# Altium schematic symbol library TI Power Management DC-DC Controller (External Switch).SchLib: 349 symbols (part 25 of 26)
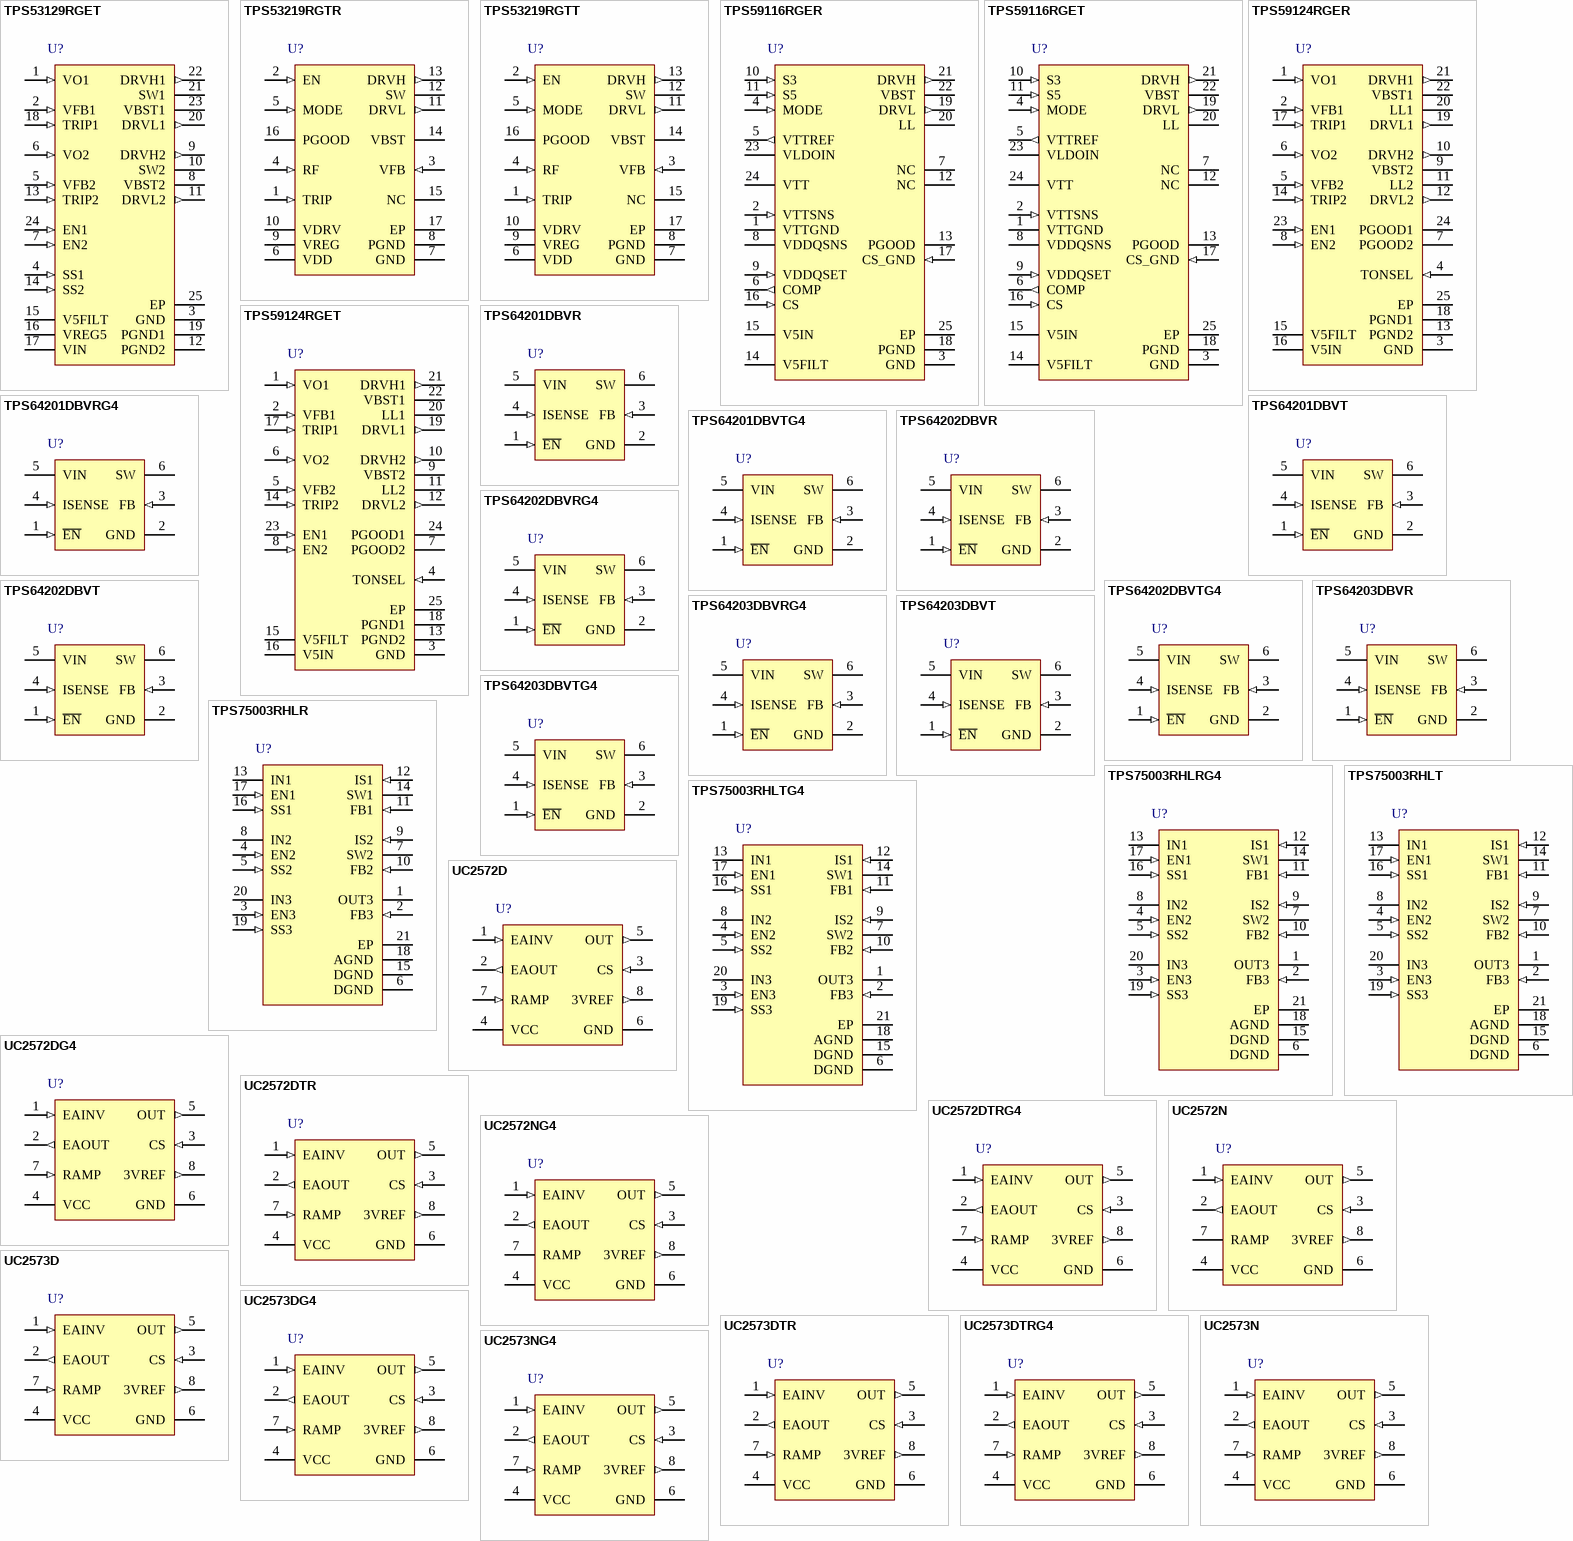
[diagram p38: symbols TPS53129RGET to UC2573NG4]

## TPS64202DBVTG4
designator U?
Adjustable, up to 3 A, 95 % Efficient Step-Down Controller, 100 % Duty Cycle, 1.8 to 6.5 V, -40 to 85 degC, 6-pin SOT-23 (DBV), Green (RoHS & no Sb/Br); Manufacturer: Texas Instruments; PartNumber: TPS64202DBVTG4; Duty Cycle(Max)(%): 100; Iout(Max)(A): 3; Regulated Outputs(#): 1; Topology: Buck; Vin(Max)(V): 6.5; Vin(Min)(V): 1.8; Vout(Min)(V): 1.2; DatasheetVersion: SLVS485; PackageVersion: revK, Mar-2006; PackageReference: DBV6; PackageDescription: 6-Pin Plastic Small-Outline Package, 2.9 x 1.6 mm Body, 0.95 mm Pitch, 2.8 mm Lead Span; Supplier 1: Digi-Key; Supplier Part Number 1: TPS64202DBVTG4-ND; Eco-Plan: Green (RoHS & no Sb/Br); SubFamily: Step-Down Controller; Vout(Max)(V): 6.5; Mounting Technology: Surface Mount; Code_JEDEC: MO-178-AB*; ComponentLink1Description: Datasheet; ComponentLink1URL: http://www.ti.com/general/docs/lit/getliterature.tsp?genericPartNumber=TPS64202&fileType=pdf; ComponentLink2Description: Package Specification; ComponentLink2URL: http://www.ti.com/litv/pdf/mpds026h
footprint DBV6_N (SOT23, 6-Leads, Body 2.9x1.6mm, Pitch 0.95mm, Lead Span 2.8mm, IPC Medium Density)
footprint DBV6_L (SOT23, 6-Leads, Body 2.9x1.6mm, Pitch 0.95mm, Lead Span 2.8mm, IPC High Density)
footprint DBV6_M (SOT23, 6-Leads, Body 2.9x1.6mm, Pitch 0.95mm, Lead Span 2.8mm, IPC Low Density)
pins: 1 ~{EN} (in) "Enable. A logic low enables the converter, logic high forces the device into shutdown mode reducing the supply current to less than 1 uA.", 2 GND (power) "Ground", 3 FB (in) "Feedback pin. Connect an external voltage divider to this pin to set the output voltage", 4 ISENSE (in) "Current sense input. Connect the current sense resistor between VIN and ISENSE. (optional)", 5 VIN (power) "Supply voltage input", 6 SW (power) "This pin connects to the gate of an external P-channel MOSFET"

## TPS64203DBVR
designator U?
Adjustable, up to 3 A, 95 % Efficient Step-Down Controller, 100 % Duty Cycle, 1.8 to 6.5 V, -40 to 85 degC, 6-pin SOT-23 (DBV), Green (RoHS & no Sb/Br); Manufacturer: Texas Instruments; PartNumber: TPS64203DBVR; Duty Cycle(Max)(%): 100; Iout(Max)(A): 3; Regulated Outputs(#): 1; Topology: Buck; Vin(Max)(V): 6.5; Vin(Min)(V): 1.8; Vout(Min)(V): 1.2; DatasheetVersion: SLVS485; PackageVersion: revK, Mar-2006; PackageReference: DBV6; PackageDescription: 6-Pin Plastic Small-Outline Package, 2.9 x 1.6 mm Body, 0.95 mm Pitch, 2.8 mm Lead Span; Supplier 1: Digi-Key; Supplier Part Number 1: 296-27036-2-ND; Eco-Plan: Green (RoHS & no Sb/Br); SubFamily: Step-Down Controller; Vout(Max)(V): 6.5; Mounting Technology: Surface Mount; Code_JEDEC: MO-178-AB*; ComponentLink1Description: Datasheet; ComponentLink1URL: http://www.ti.com/general/docs/lit/getliterature.tsp?genericPartNumber=TPS64203&fileType=pdf; ComponentLink2Description: Package Specification; ComponentLink2URL: http://www.ti.com/litv/pdf/mpds026h
footprint DBV6_N (SOT23, 6-Leads, Body 2.9x1.6mm, Pitch 0.95mm, Lead Span 2.8mm, IPC Medium Density)
footprint DBV6_L (SOT23, 6-Leads, Body 2.9x1.6mm, Pitch 0.95mm, Lead Span 2.8mm, IPC High Density)
footprint DBV6_M (SOT23, 6-Leads, Body 2.9x1.6mm, Pitch 0.95mm, Lead Span 2.8mm, IPC Low Density)
pins: 1 ~{EN} (in) "Enable. A logic low enables the converter, logic high forces the device into shutdown mode reducing the supply current to less than 1 uA.", 2 GND (power) "Ground", 3 FB (in) "Feedback pin. Connect an external voltage divider to this pin to set the output voltage.", 4 ISENSE (in) "Current sense input. Connect the current sense resistor between VIN and ISENSE. (optional)", 5 VIN (power) "Supply voltage input", 6 SW (power) "This pin connects to the gate of an external P-channel MOSFET."

## TPS64203DBVRG4
designator U?
Adjustable, up to 3 A, 95 % Efficient Step-Down Controller, 100 % Duty Cycle, 1.8 to 6.5 V, -40 to 85 degC, 6-pin SOT-23 (DBV), Green (RoHS & no Sb/Br); Manufacturer: Texas Instruments; PartNumber: TPS64203DBVRG4; Duty Cycle(Max)(%): 100; Iout(Max)(A): 3; Regulated Outputs(#): 1; Topology: Buck; Vin(Max)(V): 6.5; Vin(Min)(V): 1.8; Vout(Min)(V): 1.2; DatasheetVersion: SLVS485; PackageVersion: revK, Mar-2006; PackageReference: DBV6; PackageDescription: 6-Pin Plastic Small-Outline Package, 2.9 x 1.6 mm Body, 0.95 mm Pitch, 2.8 mm Lead Span; Supplier 1: Digi-Key; Supplier Part Number 1: TPS64203DBVRG4-ND; Eco-Plan: Green (RoHS & no Sb/Br); SubFamily: Step-Down Controller; Vout(Max)(V): 6.5; Mounting Technology: Surface Mount; Code_JEDEC: MO-178-AB*; ComponentLink1Description: Datasheet; ComponentLink1URL: http://www.ti.com/general/docs/lit/getliterature.tsp?genericPartNumber=TPS64203&fileType=pdf; ComponentLink2Description: Package Specification; ComponentLink2URL: http://www.ti.com/litv/pdf/mpds026h
footprint DBV6_N (SOT23, 6-Leads, Body 2.9x1.6mm, Pitch 0.95mm, Lead Span 2.8mm, IPC Medium Density)
footprint DBV6_L (SOT23, 6-Leads, Body 2.9x1.6mm, Pitch 0.95mm, Lead Span 2.8mm, IPC High Density)
footprint DBV6_M (SOT23, 6-Leads, Body 2.9x1.6mm, Pitch 0.95mm, Lead Span 2.8mm, IPC Low Density)
pins: 1 ~{EN} (in) "Enable. A logic low enables the converter, logic high forces the device into shutdown mode reducing the supply current to less than 1 uA.", 2 GND (power) "Ground", 3 FB (in) "Feedback pin. Connect an external voltage divider to this pin to set the output voltage.", 4 ISENSE (in) "Current sense input. Connect the current sense resistor between VIN and ISENSE. (optional)", 5 VIN (power) "Supply voltage input", 6 SW (power) "This pin connects to the gate of an external P-channel MOSFET."

## TPS64203DBVT
designator U?
Adjustable, up to 3 A, 95 % Efficient Step-Down Controller, 100 % Duty Cycle, 1.8 to 6.5 V, -40 to 85 degC, 6-pin SOT-23 (DBV), Green (RoHS & no Sb/Br); Manufacturer: Texas Instruments; PartNumber: TPS64203DBVT; Duty Cycle(Max)(%): 100; Iout(Max)(A): 3; Regulated Outputs(#): 1; Topology: Buck; Vin(Max)(V): 6.5; Vin(Min)(V): 1.8; Vout(Min)(V): 1.2; DatasheetVersion: SLVS485; PackageVersion: revK, Mar-2006; PackageReference: DBV6; PackageDescription: 6-Pin Plastic Small-Outline Package, 2.9 x 1.6 mm Body, 0.95 mm Pitch, 2.8 mm Lead Span; Supplier 1: Digi-Key; Supplier Part Number 1: 296-15707-2-ND; Eco-Plan: Green (RoHS & no Sb/Br); SubFamily: Step-Down Controller; Vout(Max)(V): 6.5; Mounting Technology: Surface Mount; Code_JEDEC: MO-178-AB*; ComponentLink1Description: Datasheet; ComponentLink1URL: http://www.ti.com/general/docs/lit/getliterature.tsp?genericPartNumber=TPS64203&fileType=pdf; ComponentLink2Description: Package Specification; ComponentLink2URL: http://www.ti.com/litv/pdf/mpds026h
footprint DBV6_N (SOT23, 6-Leads, Body 2.9x1.6mm, Pitch 0.95mm, Lead Span 2.8mm, IPC Medium Density)
footprint DBV6_L (SOT23, 6-Leads, Body 2.9x1.6mm, Pitch 0.95mm, Lead Span 2.8mm, IPC High Density)
footprint DBV6_M (SOT23, 6-Leads, Body 2.9x1.6mm, Pitch 0.95mm, Lead Span 2.8mm, IPC Low Density)
pins: 1 ~{EN} (in) "Enable. A logic low enables the converter, logic high forces the device into shutdown mode reducing the supply current to less than 1 uA.", 2 GND (power) "Ground", 3 FB (in) "Feedback pin. Connect an external voltage divider to this pin to set the output voltage.", 4 ISENSE (in) "Current sense input. Connect the current sense resistor between VIN and ISENSE. (optional)", 5 VIN (power) "Supply voltage input", 6 SW (power) "This pin connects to the gate of an external P-channel MOSFET."

## TPS64203DBVTG4
designator U?
Adjustable, up to 3 A, 95 % Efficient Step-Down Controller, 100 % Duty Cycle, 1.8 to 6.5 V, -40 to 85 degC, 6-pin SOT-23 (DBV), Green (RoHS & no Sb/Br); Manufacturer: Texas Instruments; PartNumber: TPS64203DBVTG4; Duty Cycle(Max)(%): 100; Iout(Max)(A): 3; Regulated Outputs(#): 1; Topology: Buck; Vin(Max)(V): 6.5; Vin(Min)(V): 1.8; Vout(Min)(V): 1.2; DatasheetVersion: SLVS485; PackageVersion: revK, Mar-2006; PackageReference: DBV6; PackageDescription: 6-Pin Plastic Small-Outline Package, 2.9 x 1.6 mm Body, 0.95 mm Pitch, 2.8 mm Lead Span; Supplier 1: Digi-Key; Supplier Part Number 1: TPS64203DBVTG4-ND; Eco-Plan: Green (RoHS & no Sb/Br); SubFamily: Step-Down Controller; Vout(Max)(V): 6.5; Mounting Technology: Surface Mount; Code_JEDEC: MO-178-AB*; ComponentLink1Description: Datasheet; ComponentLink1URL: http://www.ti.com/general/docs/lit/getliterature.tsp?genericPartNumber=TPS64203&fileType=pdf; ComponentLink2Description: Package Specification; ComponentLink2URL: http://www.ti.com/litv/pdf/mpds026h
footprint DBV6_N (SOT23, 6-Leads, Body 2.9x1.6mm, Pitch 0.95mm, Lead Span 2.8mm, IPC Medium Density)
footprint DBV6_L (SOT23, 6-Leads, Body 2.9x1.6mm, Pitch 0.95mm, Lead Span 2.8mm, IPC High Density)
footprint DBV6_M (SOT23, 6-Leads, Body 2.9x1.6mm, Pitch 0.95mm, Lead Span 2.8mm, IPC Low Density)
pins: 1 ~{EN} (in) "Enable. A logic low enables the converter, logic high forces the device into shutdown mode reducing the supply current to less than 1 uA.", 2 GND (power) "Ground", 3 FB (in) "Feedback pin. Connect an external voltage divider to this pin to set the output voltage.", 4 ISENSE (in) "Current sense input. Connect the current sense resistor between VIN and ISENSE. (optional)", 5 VIN (power) "Supply voltage input", 6 SW (power) "This pin connects to the gate of an external P-channel MOSFET."

## TPS75003RHLR
designator U?
Integrated Triple Supply Power Management IC for Xilinx (R) Spartan (TM)-3 FPGAs, 2.2 to 6.5 V, -40 to 85 degC, 20-pin QFN (RHL), Green (RoHS & no Sb/Br); Manufacturer: Texas Instruments; PartNumber: TPS75003RHLR; Regulated Outputs(#): 3; SubFamily: DC/DC Controller (External Switch); Topology: Multi-Channel; Vin(Max)(V): 6.5; Vin(Min)(V): 2.2; DatasheetVersion: SBVS052I; PackageVersion: revJ, Dec-2011; PackageReference: RHL20-3050X2050TP; PackageDescription: 20-Leads Plastic Quad Flatpack No-Lead, 4.5 x 3.5 x 0.9 mm Body, 0.5 mm Pitch, Exposed Pad; Supplier 1: Digi-Key; Supplier Part Number 1: 296-17835-2-ND; Eco-Plan: Green (RoHS & no Sb/Br); Mounting Technology: Surface Mount; ComponentLink1Description: Datasheet; ComponentLink1URL: http://www.ti.com/general/docs/lit/getliterature.tsp?genericPartNumber=TPS75003&fileType=pdf; ComponentLink2Description: Package Specification; ComponentLink2URL: http://www.ti.com/litv/pdf/mpqf155i
footprint RHL20-3050X2050TP (QFN, 20-Leads, Body 4.5x3.5mm, Pitch 0.5mm, Thermal Pad 3.05x2.05mm, TI Recommended)
pins: 1 OUT3 (power) "Regulated LDO output. A small ceramic capacitor (>= 2.2uF) is needed from this pin to ground to ensure stability.", 2 FB3 (in) "Same as FB1 but for LDO.", 3 EN3 (in) "Same as EN1 but for LDO.", 4 EN2 (in) "Same as EN1 but for BUCK2 controller.", 5 SS2 (in) "Same as SS1 but for BUCK2 regulator.", 6 DGND (power) "Ground connection for BUCK1 and BUCK2 converters. Pins 6 and 15 should be connected to the back side exposed pad by a short metal trace as shown in the PCB Layout section of this data sheet.", 7 SW2 (power) "Same as SW1 but for BUCK2 controller.", 8 IN2 (power) "Input supply to BUCK2.", 9 IS2 (in) "Same as IS1 but compared to IN2 and used for BUCK2 controller.", 10 FB2 (in) "Same as FB1 but for BUCK2 controller.", 11 FB1 (in) "Feedback pin. Used to set the output voltage of BUCK1 regulator.", 12 IS1 (in) "Current sense input for BUCK1 regulator. The voltage difference between this pin and IN1 is compared to an internal reference to set current limit. For a robust output start-up ramp, careful layout and bypassing are required.(See Datasheet)", 13 IN1 (power) "Input supply to BUCK1.", 14 SW1 (power) "Gate drive pin for external BUCK1 P-channel MOSFET.", 15 DGND (power) "Ground connection for BUCK1 and BUCK2 converters. Pins 6 and 15 should be connected to the back side exposed pad by a short metal trace as shown in the PCB Layout section of this data sheet.", 16 SS1 (in) "Connecting a capacitor between this pin and ground increases start-up time of the BUCK1 regulator by slowing the ramp-up of current limit. This high-impedance pin is noise-sensitive; careful layout is important. See the (See Datasheet)", 17 EN1 (in) "Driving the enable pin (ENx) high turns on BUCK1 regulator. Driving this pin low puts it into shutdown mode, reducing operating current. The enable pin does not trigger on fast negative going transients.", 18 AGND (power) "Ground connection for LDO.", 19 SS3 (in) "Connecting a capacitor from this pin to ground slows the start-up time of the LDO reference, therby slowing output voltage ramp-up. See the Applications section for details.", 20 IN3 (power) "Input supply to LDO.", 21 EP (power) "Ground connection for BUCK1 and BUCK2 converters. Pins 6 and 15 should be connected to the back side exposed pad by a short metal trace as shown in the PCB Layout section of this data sheet."

## TPS75003RHLRG4
designator U?
Integrated Triple Supply Power Management IC for Xilinx (R) Spartan (TM)-3 FPGAs, 2.2 to 6.5 V, -40 to 85 degC, 20-pin QFN (RHL), Green (RoHS & no Sb/Br); Manufacturer: Texas Instruments; PartNumber: TPS75003RHLRG4; Regulated Outputs(#): 3; SubFamily: DC/DC Controller (External Switch); Topology: Multi-Channel; Vin(Max)(V): 6.5; Vin(Min)(V): 2.2; DatasheetVersion: SBVS052I; PackageVersion: revJ, Dec-2011; PackageReference: RHL20-3050X2050TP; PackageDescription: 20-Leads Plastic Quad Flatpack No-Lead, 4.5 x 3.5 x 0.9 mm Body, 0.5 mm Pitch, Exposed Pad; Supplier 1: Digi-Key; Supplier Part Number 1: TPS75003RHLRG4-ND; Eco-Plan: Green (RoHS & no Sb/Br); Mounting Technology: Surface Mount; ComponentLink1Description: Datasheet; ComponentLink1URL: http://www.ti.com/general/docs/lit/getliterature.tsp?genericPartNumber=TPS75003&fileType=pdf; ComponentLink2Description: Package Specification; ComponentLink2URL: http://www.ti.com/litv/pdf/mpqf155i
footprint RHL20-3050X2050TP (QFN, 20-Leads, Body 4.5x3.5mm, Pitch 0.5mm, Thermal Pad 3.05x2.05mm, TI Recommended)
pins: 1 OUT3 (power) "Regulated LDO output. A small ceramic capacitor (>= 2.2uF) is needed from this pin to ground to ensure stability.", 2 FB3 (in) "Same as FB1 but for LDO.", 3 EN3 (in) "Same as EN1 but for LDO.", 4 EN2 (in) "Same as EN1 but for BUCK2 controller.", 5 SS2 (in) "Same as SS1 but for BUCK2 regulator.", 6 DGND (power) "Ground connection for BUCK1 and BUCK2 converters. Pins 6 and 15 should be connected to the back side exposed pad by a short metal trace as shown in the PCB Layout section of this data sheet.", 7 SW2 (power) "Same as SW1 but for BUCK2 controller.", 8 IN2 (power) "Input supply to BUCK2.", 9 IS2 (in) "Same as IS1 but compared to IN2 and used for BUCK2 controller.", 10 FB2 (in) "Same as FB1 but for BUCK2 controller.", 11 FB1 (in) "Feedback pin. Used to set the output voltage of BUCK1 regulator.", 12 IS1 (in) "Current sense input for BUCK1 regulator. The voltage difference between this pin and IN1 is compared to an internal reference to set current limit. For a robust output start-up ramp, careful layout and bypassing are required.(See Datasheet)", 13 IN1 (power) "Input supply to BUCK1.", 14 SW1 (power) "Gate drive pin for external BUCK1 P-channel MOSFET.", 15 DGND (power) "Ground connection for BUCK1 and BUCK2 converters. Pins 6 and 15 should be connected to the back side exposed pad by a short metal trace as shown in the PCB Layout section of this data sheet.", 16 SS1 (in) "Connecting a capacitor between this pin and ground increases start-up time of the BUCK1 regulator by slowing the ramp-up of current limit. This high-impedance pin is noise-sensitive; careful layout is important. See the (See Datasheet)", 17 EN1 (in) "Driving the enable pin (ENx) high turns on BUCK1 regulator. Driving this pin low puts it into shutdown mode, reducing operating current. The enable pin does not trigger on fast negative going transients.", 18 AGND (power) "Ground connection for LDO.", 19 SS3 (in) "Connecting a capacitor from this pin to ground slows the start-up time of the LDO reference, therby slowing output voltage ramp-up. See the Applications section for details.", 20 IN3 (power) "Input supply to LDO.", 21 EP (power) "Ground connection for BUCK1 and BUCK2 converters. Pins 6 and 15 should be connected to the back side exposed pad by a short metal trace as shown in the PCB Layout section of this data sheet."

## TPS75003RHLT
designator U?
Integrated Triple Supply Power Management IC for Xilinx (R) Spartan (TM)-3 FPGAs, 2.2 to 6.5 V, -40 to 85 degC, 20-pin QFN (RHL), Green (RoHS & no Sb/Br); Manufacturer: Texas Instruments; PartNumber: TPS75003RHLT; Regulated Outputs(#): 3; SubFamily: DC/DC Controller (External Switch); Topology: Multi-Channel; Vin(Max)(V): 6.5; Vin(Min)(V): 2.2; DatasheetVersion: SBVS052I; PackageVersion: revJ, Dec-2011; PackageReference: RHL20-3050X2050TP; PackageDescription: 20-Leads Plastic Quad Flatpack No-Lead, 4.5 x 3.5 x 0.9 mm Body, 0.5 mm Pitch, Exposed Pad; Supplier 1: Digi-Key; Supplier Part Number 1: 296-19438-2-ND; Eco-Plan: Green (RoHS & no Sb/Br); Mounting Technology: Surface Mount; ComponentLink1Description: Datasheet; ComponentLink1URL: http://www.ti.com/general/docs/lit/getliterature.tsp?genericPartNumber=TPS75003&fileType=pdf; ComponentLink2Description: Package Specification; ComponentLink2URL: http://www.ti.com/litv/pdf/mpqf155i
footprint RHL20-3050X2050TP (QFN, 20-Leads, Body 4.5x3.5mm, Pitch 0.5mm, Thermal Pad 3.05x2.05mm, TI Recommended)
pins: 1 OUT3 (power) "Regulated LDO output. A small ceramic capacitor (>= 2.2uF) is needed from this pin to ground to ensure stability.", 2 FB3 (in) "Same as FB1 but for LDO.", 3 EN3 (in) "Same as EN1 but for LDO.", 4 EN2 (in) "Same as EN1 but for BUCK2 controller.", 5 SS2 (in) "Same as SS1 but for BUCK2 regulator.", 6 DGND (power) "Ground connection for BUCK1 and BUCK2 converters. Pins 6 and 15 should be connected to the back side exposed pad by a short metal trace as shown in the PCB Layout section of this data sheet.", 7 SW2 (power) "Same as SW1 but for BUCK2 controller.", 8 IN2 (power) "Input supply to BUCK2.", 9 IS2 (in) "Same as IS1 but compared to IN2 and used for BUCK2 controller.", 10 FB2 (in) "Same as FB1 but for BUCK2 controller.", 11 FB1 (in) "Feedback pin. Used to set the output voltage of BUCK1 regulator.", 12 IS1 (in) "Current sense input for BUCK1 regulator. The voltage difference between this pin and IN1 is compared to an internal reference to set current limit. For a robust output start-up ramp, careful layout and bypassing are required.(See Datasheet)", 13 IN1 (power) "Input supply to BUCK1.", 14 SW1 (power) "Gate drive pin for external BUCK1 P-channel MOSFET.", 15 DGND (power) "Ground connection for BUCK1 and BUCK2 converters. Pins 6 and 15 should be connected to the back side exposed pad by a short metal trace as shown in the PCB Layout section of this data sheet.", 16 SS1 (in) "Connecting a capacitor between this pin and ground increases start-up time of the BUCK1 regulator by slowing the ramp-up of current limit. This high-impedance pin is noise-sensitive; careful layout is important. See the (See Datasheet)", 17 EN1 (in) "Driving the enable pin (ENx) high turns on BUCK1 regulator. Driving this pin low puts it into shutdown mode, reducing operating current. The enable pin does not trigger on fast negative going transients.", 18 AGND (power) "Ground connection for LDO.", 19 SS3 (in) "Connecting a capacitor from this pin to ground slows the start-up time of the LDO reference, therby slowing output voltage ramp-up. See the Applications section for details.", 20 IN3 (power) "Input supply to LDO.", 21 EP (power) "Ground connection for BUCK1 and BUCK2 converters. Pins 6 and 15 should be connected to the back side exposed pad by a short metal trace as shown in the PCB Layout section of this data sheet."

## TPS75003RHLTG4
designator U?
Integrated Triple Supply Power Management IC for Xilinx (R) Spartan (TM)-3 FPGAs, 2.2 to 6.5 V, -40 to 85 degC, 20-pin QFN (RHL), Green (RoHS & no Sb/Br); Manufacturer: Texas Instruments; PartNumber: TPS75003RHLTG4; Regulated Outputs(#): 3; SubFamily: DC/DC Controller (External Switch); Topology: Multi-Channel; Vin(Max)(V): 6.5; Vin(Min)(V): 2.2; DatasheetVersion: SBVS052I; PackageVersion: revJ, Dec-2011; PackageReference: RHL20-3050X2050TP; PackageDescription: 20-Leads Plastic Quad Flatpack No-Lead, 4.5 x 3.5 x 0.9 mm Body, 0.5 mm Pitch, Exposed Pad; Supplier 1: Digi-Key; Supplier Part Number 1: TPS75003RHLTG4-ND; Eco-Plan: Green (RoHS & no Sb/Br); Mounting Technology: Surface Mount; ComponentLink1Description: Datasheet; ComponentLink1URL: http://www.ti.com/general/docs/lit/getliterature.tsp?genericPartNumber=TPS75003&fileType=pdf; ComponentLink2Description: Package Specification; ComponentLink2URL: http://www.ti.com/litv/pdf/mpqf155i
footprint RHL20-3050X2050TP (QFN, 20-Leads, Body 4.5x3.5mm, Pitch 0.5mm, Thermal Pad 3.05x2.05mm, TI Recommended)
pins: 1 OUT3 (power) "Regulated LDO output. A small ceramic capacitor (>= 2.2uF) is needed from this pin to ground to ensure stability.", 2 FB3 (in) "Same as FB1 but for LDO.", 3 EN3 (in) "Same as EN1 but for LDO.", 4 EN2 (in) "Same as EN1 but for BUCK2 controller.", 5 SS2 (in) "Same as SS1 but for BUCK2 regulator.", 6 DGND (power) "Ground connection for BUCK1 and BUCK2 converters. Pins 6 and 15 should be connected to the back side exposed pad by a short metal trace as shown in the PCB Layout section of this data sheet.", 7 SW2 (power) "Same as SW1 but for BUCK2 controller.", 8 IN2 (power) "Input supply to BUCK2.", 9 IS2 (in) "Same as IS1 but compared to IN2 and used for BUCK2 controller.", 10 FB2 (in) "Same as FB1 but for BUCK2 controller.", 11 FB1 (in) "Feedback pin. Used to set the output voltage of BUCK1 regulator.", 12 IS1 (in) "Current sense input for BUCK1 regulator. The voltage difference between this pin and IN1 is compared to an internal reference to set current limit. For a robust output start-up ramp, careful layout and bypassing are required.(See Datasheet)", 13 IN1 (power) "Input supply to BUCK1.", 14 SW1 (power) "Gate drive pin for external BUCK1 P-channel MOSFET.", 15 DGND (power) "Ground connection for BUCK1 and BUCK2 converters. Pins 6 and 15 should be connected to the back side exposed pad by a short metal trace as shown in the PCB Layout section of this data sheet.", 16 SS1 (in) "Connecting a capacitor between this pin and ground increases start-up time of the BUCK1 regulator by slowing the ramp-up of current limit. This high-impedance pin is noise-sensitive; careful layout is important. See the (See Datasheet)", 17 EN1 (in) "Driving the enable pin (ENx) high turns on BUCK1 regulator. Driving this pin low puts it into shutdown mode, reducing operating current. The enable pin does not trigger on fast negative going transients.", 18 AGND (power) "Ground connection for LDO.", 19 SS3 (in) "Connecting a capacitor from this pin to ground slows the start-up time of the LDO reference, therby slowing output voltage ramp-up. See the Applications section for details.", 20 IN3 (power) "Input supply to LDO.", 21 EP (power) "Ground connection for BUCK1 and BUCK2 converters. Pins 6 and 15 should be connected to the back side exposed pad by a short metal trace as shown in the PCB Layout section of this data sheet."

## UC2572D
designator U?
Negative Output Flyback Pulse Width Modulator, 100 % Duty Cycle, 4.2 to 35 V, -40 to 85 degC, 8-pin SOIC (D), Green (RoHS & no Sb/Br); Manufacturer: Texas Instruments; PartNumber: UC2572D; Duty Cycle(Max)(%): 100; Iout(Max)(A): 0.5; Regulated Outputs(#): 1; SubFamily: Buck-Boost, Inverting Switching Controller; Switching Frequency(Max)(kHz): 300; Vin(Max)(V): 35; Vin(Min)(V): 4.2; Vout(Max)(V): -1; Vout(Min)(V): -70; DatasheetVersion: SLUS275A; PackageVersion: revM, Jun-2011; PackageReference: D8; PackageDescription: 8-Pin Plastic Small Outline Integrated Circuit, 4.9 x 3.9 mm, Pitch 1.27 mm Pitch; Supplier 1: Digi-Key; Supplier Part Number 1: 296-2480-5-ND; Eco-Plan: Green (RoHS & no Sb/Br); Topology: Flyback; Mounting Technology: Surface Mount; Code_JEDEC: MS-012AA; ComponentLink1Description: Datasheet; ComponentLink1URL: http://www.ti.com/general/docs/lit/getliterature.tsp?genericPartNumber=UC2572&fileType=pdf; ComponentLink2Description: Package Specification; ComponentLink2URL: http://www.ti.com/litv/pdf/msoi002j
footprint D8_N (SOIC, 8-Leads, Body 4.9x3.9mm, Pitch 1.27mm, IPC Medium Density)
footprint D8_L (SOIC, 8-Leads, Body 4.9x3.9mm, Pitch 1.27mm, IPC High Density)
footprint D8_M (SOIC, 8-Leads, Body 4.9x3.9mm, Pitch 1.27mm, IPC Low Density)
pins: 1 EAINV (in) "Inverting input to error amplifier. Summing junction for 3VREF and VOUT sense. The non-inverting input of the error amplifier is internally connected to GND. This pin will source a maximum of 1mA.", 2 EAOUT (out) "Output of error amplifier. Use EAOUT and EAINV for loop compensation components.", 3 CS (in) "Current limit sense pin. Connect to a ground referenced current sense resistor in series with the flyback inductor. OUT will be held high (PMOS switch off) if CS exceeds 0.2V.", 4 VCC (power) "Input voltage supply to chip. Range is 4.75 to 30V. Bypass with a 1uF capacitor", 5 OUT (out) "Gate drive for external PMOS switch connected between VCC and the flyback inductor. OUT drives the gate of the PMOS switch between VCC and GND", 6 GND (power) "Circuit Ground.", 7 RAMP (in) "Oscillator and ramp for pulse width modulator.Frequency is set by a capacitor to GND by the equation F=1/15K·CRAMP Recommended operating frequency range is 10kHz to 200kHz.", 8 3VREF (out) "Precision 3V reference. Bypass with 100nF capacitor to GND."

## UC2572DG4
designator U?
Negative Output Flyback Pulse Width Modulator, 100 % Duty Cycle, 4.2 to 35 V, -40 to 85 degC, 8-pin SOIC (D), Green (RoHS & no Sb/Br); Manufacturer: Texas Instruments; PartNumber: UC2572DG4; Duty Cycle(Max)(%): 100; Iout(Max)(A): 0.5; Regulated Outputs(#): 1; SubFamily: Buck-Boost, Inverting Switching Controller; Switching Frequency(Max)(kHz): 300; Vin(Max)(V): 35; Vin(Min)(V): 4.2; Vout(Max)(V): -1; Vout(Min)(V): -70; DatasheetVersion: SLUS275A; PackageVersion: revM, Jun-2011; PackageReference: D8; PackageDescription: 8-Pin Plastic Small Outline Integrated Circuit, 4.9 x 3.9 mm, Pitch 1.27 mm Pitch; Supplier 1: Digi-Key; Supplier Part Number 1: UC2572DG4-ND; Eco-Plan: Green (RoHS & no Sb/Br); Topology: Flyback; Mounting Technology: Surface Mount; Code_JEDEC: MS-012AA; ComponentLink1Description: Datasheet; ComponentLink1URL: http://www.ti.com/general/docs/lit/getliterature.tsp?genericPartNumber=UC2572&fileType=pdf; ComponentLink2Description: Package Specification; ComponentLink2URL: http://www.ti.com/litv/pdf/msoi002j
footprint D8_N (SOIC, 8-Leads, Body 4.9x3.9mm, Pitch 1.27mm, IPC Medium Density)
footprint D8_L (SOIC, 8-Leads, Body 4.9x3.9mm, Pitch 1.27mm, IPC High Density)
footprint D8_M (SOIC, 8-Leads, Body 4.9x3.9mm, Pitch 1.27mm, IPC Low Density)
pins: 1 EAINV (in) "Inverting input to error amplifier. Summing junction for 3VREF and VOUT sense. The non-inverting input of the error amplifier is internally connected to GND. This pin will source a maximum of 1mA.", 2 EAOUT (out) "Output of error amplifier. Use EAOUT and EAINV for loop compensation components.", 3 CS (in) "Current limit sense pin. Connect to a ground referenced current sense resistor in series with the flyback inductor. OUT will be held high (PMOS switch off) if CS exceeds 0.2V.", 4 VCC (power) "Input voltage supply to chip. Range is 4.75 to 30V. Bypass with a 1uF capacitor", 5 OUT (out) "Gate drive for external PMOS switch connected between VCC and the flyback inductor. OUT drives the gate of the PMOS switch between VCC and GND", 6 GND (power) "Circuit Ground.", 7 RAMP (in) "Oscillator and ramp for pulse width modulator.Frequency is set by a capacitor to GND by the equation F=1/15K·CRAMP Recommended operating frequency range is 10kHz to 200kHz.", 8 3VREF (out) "Precision 3V reference. Bypass with 100nF capacitor to GND."

## UC2572DTR
designator U?
Negative Output Flyback Pulse Width Modulator, 100 % Duty Cycle, 4.2 to 35 V, -40 to 85 degC, 8-pin SOIC (D), Green (RoHS & no Sb/Br); Manufacturer: Texas Instruments; PartNumber: UC2572DTR; Duty Cycle(Max)(%): 100; Iout(Max)(A): 0.5; Regulated Outputs(#): 1; SubFamily: Buck-Boost, Inverting Switching Controller; Switching Frequency(Max)(kHz): 300; Vin(Max)(V): 35; Vin(Min)(V): 4.2; Vout(Max)(V): -1; Vout(Min)(V): -70; DatasheetVersion: SLUS275A; PackageVersion: revM, Jun-2011; PackageReference: D8; PackageDescription: 8-Pin Plastic Small Outline Integrated Circuit, 4.9 x 3.9 mm, Pitch 1.27 mm Pitch; Supplier 1: Digi-Key; Supplier Part Number 1: UC2572DTR-ND; Eco-Plan: Green (RoHS & no Sb/Br); Topology: Flyback; Mounting Technology: Surface Mount; Code_JEDEC: MS-012AA; ComponentLink1Description: Datasheet; ComponentLink1URL: http://www.ti.com/general/docs/lit/getliterature.tsp?genericPartNumber=UC2572&fileType=pdf; ComponentLink2Description: Package Specification; ComponentLink2URL: http://www.ti.com/litv/pdf/msoi002j
footprint D8_N (SOIC, 8-Leads, Body 4.9x3.9mm, Pitch 1.27mm, IPC Medium Density)
footprint D8_L (SOIC, 8-Leads, Body 4.9x3.9mm, Pitch 1.27mm, IPC High Density)
footprint D8_M (SOIC, 8-Leads, Body 4.9x3.9mm, Pitch 1.27mm, IPC Low Density)
pins: 1 EAINV (in) "Inverting input to error amplifier. Summing junction for 3VREF and VOUT sense. The non-inverting input of the error amplifier is internally connected to GND. This pin will source a maximum of 1mA.", 2 EAOUT (out) "Output of error amplifier. Use EAOUT and EAINV for loop compensation components.", 3 CS (in) "Current limit sense pin. Connect to a ground referenced current sense resistor in series with the flyback inductor. OUT will be held high (PMOS switch off) if CS exceeds 0.2V.", 4 VCC (power) "Input voltage supply to chip. Range is 4.75 to 30V. Bypass with a 1uF capacitor", 5 OUT (out) "Gate drive for external PMOS switch connected between VCC and the flyback inductor. OUT drives the gate of the PMOS switch between VCC and GND", 6 GND (power) "Circuit Ground.", 7 RAMP (in) "Oscillator and ramp for pulse width modulator.Frequency is set by a capacitor to GND by the equation F=1/15K·CRAMP Recommended operating frequency range is 10kHz to 200kHz.", 8 3VREF (out) "Precision 3V reference. Bypass with 100nF capacitor to GND."

## UC2572DTRG4
designator U?
Negative Output Flyback Pulse Width Modulator, 100 % Duty Cycle, 4.2 to 35 V, -40 to 85 degC, 8-pin SOIC (D), Green (RoHS & no Sb/Br); Manufacturer: Texas Instruments; PartNumber: UC2572DTRG4; Duty Cycle(Max)(%): 100; Iout(Max)(A): 0.5; Regulated Outputs(#): 1; SubFamily: Buck-Boost, Inverting Switching Controller; Switching Frequency(Max)(kHz): 300; Vin(Max)(V): 35; Vin(Min)(V): 4.2; Vout(Max)(V): -1; Vout(Min)(V): -70; DatasheetVersion: SLUS275A; PackageVersion: revM, Jun-2011; PackageReference: D8; PackageDescription: 8-Pin Plastic Small Outline Integrated Circuit, 4.9 x 3.9 mm, Pitch 1.27 mm Pitch; Supplier 1: Digi-Key; Supplier Part Number 1: UC2572DTRG4-ND; Eco-Plan: Green (RoHS & no Sb/Br); Topology: Flyback; Mounting Technology: Surface Mount; Code_JEDEC: MS-012AA; ComponentLink1Description: Datasheet; ComponentLink1URL: http://www.ti.com/general/docs/lit/getliterature.tsp?genericPartNumber=UC2572&fileType=pdf; ComponentLink2Description: Package Specification; ComponentLink2URL: http://www.ti.com/litv/pdf/msoi002j
footprint D8_N (SOIC, 8-Leads, Body 4.9x3.9mm, Pitch 1.27mm, IPC Medium Density)
footprint D8_L (SOIC, 8-Leads, Body 4.9x3.9mm, Pitch 1.27mm, IPC High Density)
footprint D8_M (SOIC, 8-Leads, Body 4.9x3.9mm, Pitch 1.27mm, IPC Low Density)
pins: 1 EAINV (in) "Inverting input to error amplifier. Summing junction for 3VREF and VOUT sense. The non-inverting input of the error amplifier is internally connected to GND. This pin will source a maximum of 1mA.", 2 EAOUT (out) "Output of error amplifier. Use EAOUT and EAINV for loop compensation components.", 3 CS (in) "Current limit sense pin. Connect to a ground referenced current sense resistor in series with the flyback inductor. OUT will be held high (PMOS switch off) if CS exceeds 0.2V.", 4 VCC (power) "Input voltage supply to chip. Range is 4.75 to 30V. Bypass with a 1uF capacitor", 5 OUT (out) "Gate drive for external PMOS switch connected between VCC and the flyback inductor. OUT drives the gate of the PMOS switch between VCC and GND", 6 GND (power) "Circuit Ground.", 7 RAMP (in) "Oscillator and ramp for pulse width modulator.Frequency is set by a capacitor to GND by the equation F=1/15K·CRAMP Recommended operating frequency range is 10kHz to 200kHz.", 8 3VREF (out) "Precision 3V reference. Bypass with 100nF capacitor to GND."

## UC2572N
designator U?
Negative Output Flyback Pulse Width Modulator, 100 % Duty Cycle, 4.2 to 35 V, -40 to 85 degC, 8-pin PDIP (P), Green (RoHS & no Sb/Br); Manufacturer: Texas Instruments; PartNumber: UC2572N; Duty Cycle(Max)(%): 100; Iout(Max)(A): 0.5; Regulated Outputs(#): 1; SubFamily: Buck-Boost, Inverting Switching Controller; Switching Frequency(Max)(kHz): 300; Vin(Max)(V): 35; Vin(Min)(V): 4.2; Vout(Max)(V): -1; Vout(Min)(V): -70; DatasheetVersion: SLUS275A; PackageVersion: revE, Apr-2010; PackageReference: P8; PackageDescription: 8-Pin Plastic Dual-In-Line Package, Row Spacing 7.62 mm, Pitch 2.54 mm; Supplier 1: Digi-Key; Supplier Part Number 1: 296-11157-5-ND; Eco-Plan: Green (RoHS & no Sb/Br); Topology: Flyback; Mounting Technology: Through Hole; Code_JEDEC: MS-001-BA; ComponentLink1Description: Datasheet; ComponentLink1URL: http://www.ti.com/general/docs/lit/getliterature.tsp?genericPartNumber=UC2572&fileType=pdf; ComponentLink2Description: Package Specification; ComponentLink2URL: http://www.ti.com/lit/ml/mpdi001b/mpdi001b.pdf
footprint P8 (DIP, 8-Leads, Row Spacing 7.62mm, Pitch 2.54mm, Body 9.6x6.4mm)
pins: 1 EAINV (in) "Inverting input to error amplifier. Summing junction for 3VREF and VOUT sense. The non-inverting input of the error amplifier is internally connected to GND. This pin will source a maximum of 1mA.", 2 EAOUT (out) "Output of error amplifier. Use EAOUT and EAINV for loop compensation components.", 3 CS (in) "Current limit sense pin. Connect to a ground referenced current sense resistor in series with the flyback inductor. OUT will be held high (PMOS switch off) if CS exceeds 0.2V.", 4 VCC (power) "Input voltage supply to chip. Range is 4.75 to 30V. Bypass with a 1µF capacitor.", 5 OUT (out) "Gate drive for external PMOS switch connected between VCC and the flyback inductor. OUT drives the gate of the PMOS switch between VCC and GND.", 6 GND (power) "Circuit Ground.", 7 RAMP "Oscillator and ramp for pulse width modulator.Recommended operating frequency range is 10kHz to 200kHz.", 8 3VREF (out) "Precision 3V reference. Bypass with 100nF capacitor to GND."

## UC2572NG4
designator U?
Negative Output Flyback Pulse Width Modulator, 100 % Duty Cycle, 4.2 to 35 V, -40 to 85 degC, 8-pin PDIP (P), Green (RoHS & no Sb/Br); Manufacturer: Texas Instruments; PartNumber: UC2572NG4; Duty Cycle(Max)(%): 100; Iout(Max)(A): 0.5; Regulated Outputs(#): 1; SubFamily: Buck-Boost, Inverting Switching Controller; Switching Frequency(Max)(kHz): 300; Vin(Max)(V): 35; Vin(Min)(V): 4.2; Vout(Max)(V): -1; Vout(Min)(V): -70; DatasheetVersion: SLUS275A; PackageVersion: revE, Apr-2010; PackageReference: P8; PackageDescription: 8-Pin Plastic Dual-In-Line Package, Row Spacing 7.62 mm, Pitch 2.54 mm; Supplier 1: Digi-Key; Supplier Part Number 1: UC2572NG4-ND; Eco-Plan: Green (RoHS & no Sb/Br); Topology: Flyback; Mounting Technology: Through Hole; Code_JEDEC: MS-001-BA; ComponentLink1Description: Datasheet; ComponentLink1URL: http://www.ti.com/general/docs/lit/getliterature.tsp?genericPartNumber=UC2572&fileType=pdf; ComponentLink2Description: Package Specification; ComponentLink2URL: http://www.ti.com/lit/ml/mpdi001b/mpdi001b.pdf
footprint P8 (DIP, 8-Leads, Row Spacing 7.62mm, Pitch 2.54mm, Body 9.6x6.4mm)
pins: 1 EAINV (in) "Inverting input to error amplifier. Summing junction for 3VREF and VOUT sense. The non-inverting input of the error amplifier is internally connected to GND. This pin will source a maximum of 1mA.", 2 EAOUT (out) "Output of error amplifier. Use EAOUT and EAINV for loop compensation components.", 3 CS (in) "Current limit sense pin. Connect to a ground referenced current sense resistor in series with the flyback inductor. OUT will be held high (PMOS switch off) if CS exceeds 0.2V.", 4 VCC (power) "Input voltage supply to chip. Range is 4.75 to 30V. Bypass with a 1µF capacitor.", 5 OUT (out) "Gate drive for external PMOS switch connected between VCC and the flyback inductor. OUT drives the gate of the PMOS switch between VCC and GND.", 6 GND (power) "Circuit Ground.", 7 RAMP "Oscillator and ramp for pulse width modulator.Recommended operating frequency range is 10kHz to 200kHz.", 8 3VREF (out) "Precision 3V reference. Bypass with 100nF capacitor to GND."

## UC2573D
designator U?
Buck Pulse Width Modulator Stepdown Voltage Regulator, 100 % Duty Cycle, 4.2 to 35 V, -40 to 85 degC, 8-pin SOIC (D), Green (RoHS & no Sb/Br); Manufacturer: Texas Instruments; PartNumber: UC2573D; Duty Cycle(Max)(%): 100; Iout(Max)(A): 0.5; Regulated Outputs(#): 1; SubFamily: Step-Down Controller; Switching Frequency(Max)(kHz): 300; Vin(Max)(V): 35; Vin(Min)(V): 4.2; Vout(Max)(V): 30; Vout(Min)(V): 1.5; DatasheetVersion: SLUS346A; PackageVersion: revM, Jun-2011; PackageReference: D8; PackageDescription: 8-Pin Plastic Small Outline Integrated Circuit, 4.9 x 3.9 mm, Pitch 1.27 mm Pitch; Supplier 1: Digi-Key; Supplier Part Number 1: 296-2793-5-ND; Eco-Plan: Green (RoHS & no Sb/Br); Topology: Buck; Mounting Technology: Surface Mount; Code_JEDEC: MS-012AA; ComponentLink1Description: Datasheet; ComponentLink1URL: http://www.ti.com/general/docs/lit/getliterature.tsp?genericPartNumber=UC2573&fileType=pdf; ComponentLink2Description: Package Specification; ComponentLink2URL: http://www.ti.com/litv/pdf/msoi002j
footprint D8_N (SOIC, 8-Leads, Body 4.9x3.9mm, Pitch 1.27mm, IPC Medium Density)
footprint D8_L (SOIC, 8-Leads, Body 4.9x3.9mm, Pitch 1.27mm, IPC High Density)
footprint D8_M (SOIC, 8-Leads, Body 4.9x3.9mm, Pitch 1.27mm, IPC Low Density)
pins: 1 EAINV (in) "Invering input to error amplifier.VOUT sense feedback connected to this  pin. The non-inverting input of the error amplifier is internally connected to: 3VREF/2*Volts. Connecting the ENINV pin to an external voltage greater (See Datasheet)", 2 EAOUT (out) "Output of error amplifier.Use EAOUT and EAINV for loop compensation components.", 3 CS (in) "Peak current limit sense pin. Sense the current across a current sense resistor place between VCC and source of the PMOS Back switch. OUT will be held high (PMOS buck switch off) if VCC-CS exceeds 0.4V", 4 VCC (power) "Input voltage supply to supply to chip.Range is 4.75V to 30V.Bypass with a 1 uF capacitor", 5 OUT (out) "Gate drive for external PMOS  switch connected between VCC and the flyback inductor.OUT drives the gate of the PMOS  switch between VCC and GND", 6 GND (power) "Circuit Ground", 7 RAMP (in) "Oscillator and ramp for pulse width modulator. Frequency is set by a capacitor to GND by the equation F=1/(15K*CRAMP) Recommended  operating frequency range is 10KHz to 200KHz.", 8 3VREF (out) "Precision 3V reference Bypass with 100nF capacitor."

## UC2573DG4
designator U?
Buck Pulse Width Modulator Stepdown Voltage Regulator, 100 % Duty Cycle, 4.2 to 35 V, -40 to 85 degC, 8-pin SOIC (D), Green (RoHS & no Sb/Br); Manufacturer: Texas Instruments; PartNumber: UC2573DG4; Duty Cycle(Max)(%): 100; Iout(Max)(A): 0.5; Regulated Outputs(#): 1; SubFamily: Step-Down Controller; Switching Frequency(Max)(kHz): 300; Vin(Max)(V): 35; Vin(Min)(V): 4.2; Vout(Max)(V): 30; Vout(Min)(V): 1.5; DatasheetVersion: SLUS346A; PackageVersion: revM, Jun-2011; PackageReference: D8; PackageDescription: 8-Pin Plastic Small Outline Integrated Circuit, 4.9 x 3.9 mm, Pitch 1.27 mm Pitch; Supplier 1: Digi-Key; Supplier Part Number 1: UC2573DG4-ND; Eco-Plan: Green (RoHS & no Sb/Br); Topology: Buck; Mounting Technology: Surface Mount; Code_JEDEC: MS-012AA; ComponentLink1Description: Datasheet; ComponentLink1URL: http://www.ti.com/general/docs/lit/getliterature.tsp?genericPartNumber=UC2573&fileType=pdf; ComponentLink2Description: Package Specification; ComponentLink2URL: http://www.ti.com/litv/pdf/msoi002j
footprint D8_N (SOIC, 8-Leads, Body 4.9x3.9mm, Pitch 1.27mm, IPC Medium Density)
footprint D8_L (SOIC, 8-Leads, Body 4.9x3.9mm, Pitch 1.27mm, IPC High Density)
footprint D8_M (SOIC, 8-Leads, Body 4.9x3.9mm, Pitch 1.27mm, IPC Low Density)
pins: 1 EAINV (in) "Invering input to error amplifier.VOUT sense feedback connected to this  pin. The non-inverting input of the error amplifier is internally connected to: 3VREF/2*Volts. Connecting the ENINV pin to an external voltage greater (See Datasheet)", 2 EAOUT (out) "Output of error amplifier.Use EAOUT and EAINV for loop compensation components.", 3 CS (in) "Peak current limit sense pin. Sense the current across a current sense resistor place between VCC and source of the PMOS Back switch. OUT will be held high (PMOS buck switch off) if VCC-CS exceeds 0.4V", 4 VCC (power) "Input voltage supply to supply to chip.Range is 4.75V to 30V.Bypass with a 1 uF capacitor", 5 OUT (out) "Gate drive for external PMOS  switch connected between VCC and the flyback inductor.OUT drives the gate of the PMOS  switch between VCC and GND", 6 GND (power) "Circuit Ground", 7 RAMP (in) "Oscillator and ramp for pulse width modulator. Frequency is set by a capacitor to GND by the equation F=1/(15K*CRAMP) Recommended  operating frequency range is 10KHz to 200KHz.", 8 3VREF (out) "Precision 3V reference Bypass with 100nF capacitor."

## UC2573DTR
designator U?
Buck Pulse Width Modulator Stepdown Voltage Regulator, 100 % Duty Cycle, 4.2 to 35 V, -40 to 85 degC, 8-pin SOIC (D), Green (RoHS & no Sb/Br); Manufacturer: Texas Instruments; PartNumber: UC2573DTR; Duty Cycle(Max)(%): 100; Iout(Max)(A): 0.5; Regulated Outputs(#): 1; SubFamily: Step-Down Controller; Switching Frequency(Max)(kHz): 300; Vin(Max)(V): 35; Vin(Min)(V): 4.2; Vout(Max)(V): 30; Vout(Min)(V): 1.5; DatasheetVersion: SLUS346A; PackageVersion: revM, Jun-2011; PackageReference: D8; PackageDescription: 8-Pin Plastic Small Outline Integrated Circuit, 4.9 x 3.9 mm, Pitch 1.27 mm Pitch; Supplier 1: Digi-Key; Supplier Part Number 1: UC2573DTR-ND; Eco-Plan: Green (RoHS & no Sb/Br); Topology: Buck; Mounting Technology: Surface Mount; Code_JEDEC: MS-012AA; ComponentLink1Description: Datasheet; ComponentLink1URL: http://www.ti.com/general/docs/lit/getliterature.tsp?genericPartNumber=UC2573&fileType=pdf; ComponentLink2Description: Package Specification; ComponentLink2URL: http://www.ti.com/litv/pdf/msoi002j
footprint D8_N (SOIC, 8-Leads, Body 4.9x3.9mm, Pitch 1.27mm, IPC Medium Density)
footprint D8_L (SOIC, 8-Leads, Body 4.9x3.9mm, Pitch 1.27mm, IPC High Density)
footprint D8_M (SOIC, 8-Leads, Body 4.9x3.9mm, Pitch 1.27mm, IPC Low Density)
pins: 1 EAINV (in) "Invering input to error amplifier.VOUT sense feedback connected to this  pin. The non-inverting input of the error amplifier is internally connected to: 3VREF/2*Volts. Connecting the ENINV pin to an external voltage greater (See Datasheet)", 2 EAOUT (out) "Output of error amplifier.Use EAOUT and EAINV for loop compensation components.", 3 CS (in) "Peak current limit sense pin. Sense the current across a current sense resistor place between VCC and source of the PMOS Back switch. OUT will be held high (PMOS buck switch off) if VCC-CS exceeds 0.4V", 4 VCC (power) "Input voltage supply to supply to chip.Range is 4.75V to 30V.Bypass with a 1 uF capacitor", 5 OUT (out) "Gate drive for external PMOS  switch connected between VCC and the flyback inductor.OUT drives the gate of the PMOS  switch between VCC and GND", 6 GND (power) "Circuit Ground", 7 RAMP (in) "Oscillator and ramp for pulse width modulator. Frequency is set by a capacitor to GND by the equation F=1/(15K*CRAMP) Recommended  operating frequency range is 10KHz to 200KHz.", 8 3VREF (out) "Precision 3V reference Bypass with 100nF capacitor."

## UC2573DTRG4
designator U?
Buck Pulse Width Modulator Stepdown Voltage Regulator, 100 % Duty Cycle, 4.2 to 35 V, -40 to 85 degC, 8-pin SOIC (D), Green (RoHS & no Sb/Br); Manufacturer: Texas Instruments; PartNumber: UC2573DTRG4; Duty Cycle(Max)(%): 100; Iout(Max)(A): 0.5; Regulated Outputs(#): 1; SubFamily: Step-Down Controller; Switching Frequency(Max)(kHz): 300; Vin(Max)(V): 35; Vin(Min)(V): 4.2; Vout(Max)(V): 30; Vout(Min)(V): 1.5; DatasheetVersion: SLUS346A; PackageVersion: revM, Jun-2011; PackageReference: D8; PackageDescription: 8-Pin Plastic Small Outline Integrated Circuit, 4.9 x 3.9 mm, Pitch 1.27 mm Pitch; Supplier 1: Digi-Key; Supplier Part Number 1: UC2573DTRG4-ND; Eco-Plan: Green (RoHS & no Sb/Br); Topology: Buck; Mounting Technology: Surface Mount; Code_JEDEC: MS-012AA; ComponentLink1Description: Datasheet; ComponentLink1URL: http://www.ti.com/general/docs/lit/getliterature.tsp?genericPartNumber=UC2573&fileType=pdf; ComponentLink2Description: Package Specification; ComponentLink2URL: http://www.ti.com/litv/pdf/msoi002j
footprint D8_N (SOIC, 8-Leads, Body 4.9x3.9mm, Pitch 1.27mm, IPC Medium Density)
footprint D8_L (SOIC, 8-Leads, Body 4.9x3.9mm, Pitch 1.27mm, IPC High Density)
footprint D8_M (SOIC, 8-Leads, Body 4.9x3.9mm, Pitch 1.27mm, IPC Low Density)
pins: 1 EAINV (in) "Invering input to error amplifier.VOUT sense feedback connected to this  pin. The non-inverting input of the error amplifier is internally connected to: 3VREF/2*Volts. Connecting the ENINV pin to an external voltage greater (See Datasheet)", 2 EAOUT (out) "Output of error amplifier.Use EAOUT and EAINV for loop compensation components.", 3 CS (in) "Peak current limit sense pin. Sense the current across a current sense resistor place between VCC and source of the PMOS Back switch. OUT will be held high (PMOS buck switch off) if VCC-CS exceeds 0.4V", 4 VCC (power) "Input voltage supply to supply to chip.Range is 4.75V to 30V.Bypass with a 1 uF capacitor", 5 OUT (out) "Gate drive for external PMOS  switch connected between VCC and the flyback inductor.OUT drives the gate of the PMOS  switch between VCC and GND", 6 GND (power) "Circuit Ground", 7 RAMP (in) "Oscillator and ramp for pulse width modulator. Frequency is set by a capacitor to GND by the equation F=1/(15K*CRAMP) Recommended  operating frequency range is 10KHz to 200KHz.", 8 3VREF (out) "Precision 3V reference Bypass with 100nF capacitor."

## UC2573N
designator U?
Buck Pulse Width Modulator Stepdown Voltage Regulator, 100 % Duty Cycle, 4.2 to 35 V, -40 to 85 degC, 8-pin PDIP (P), Green (RoHS & no Sb/Br); Manufacturer: Texas Instruments; PartNumber: UC2573N; Duty Cycle(Max)(%): 100; Iout(Max)(A): 0.5; Regulated Outputs(#): 1; SubFamily: Step-Down Controller; Switching Frequency(Max)(kHz): 300; Vin(Max)(V): 35; Vin(Min)(V): 4.2; Vout(Max)(V): 30; Vout(Min)(V): 1.5; DatasheetVersion: SLUS346A; PackageVersion: revE, Apr-2010; PackageReference: P8; PackageDescription: 8-Pin Plastic Dual-In-Line Package, Row Spacing 7.62 mm, Pitch 2.54 mm; Supplier 1: Digi-Key; Supplier Part Number 1: 296-11158-5-ND; Eco-Plan: Green (RoHS & no Sb/Br); Topology: Buck; Mounting Technology: Through Hole; Code_JEDEC: MS-001-BA; ComponentLink1Description: Datasheet; ComponentLink1URL: http://www.ti.com/general/docs/lit/getliterature.tsp?genericPartNumber=UC2573&fileType=pdf; ComponentLink2Description: Package Specification; ComponentLink2URL: http://www.ti.com/lit/ml/mpdi001b/mpdi001b.pdf
footprint P8 (DIP, 8-Leads, Row Spacing 7.62mm, Pitch 2.54mm, Body 9.6x6.4mm)
pins: 1 EAINV (in) "Inverting input to error  amplifier .VOUT sense feedback connected to this pin. The non-inverting input of the error amplifier is internally connected to:3vref/2 Volts.Conencting the EAINV pin to an external voltage greater (See Datasheet)", 2 EAOUT (out) "Output of error amplifier.Use EAOUT and EAINV for loop compensation components.", 3 CS (in) "Peak current limit sense pin. Senses the current across a current sense resistor placed between VCC and source of the PMOS Buck switch.OUT will be held high (PMOS buck switch off)if VCC-CS exceeds 0.4V.", 4 VCC (power) "input voltage supply to chip, Range is 4.75V to 30V .Bypass with a 1uF capacitor", 5 OUT (out) "Gate drive for external PMOS switch connected between VCC and the flyback inductor.OUT drives the gate of the PMOS switch between VCC and GND.", 6 GND (power) "Circuit Ground", 7 RAMP (in) "Oscillator and ramp for pulse width modulator. Frequency is set by a capacitor to GND by the equation Recommended operating frequency range is 10KHZ to 200KHZ", 8 3VREF (out) "Precision 3V refrence.Bypass with 100 nF capacitor."